# Altium footprint library Maze.PcbLib: 2 footprints
Each footprint in its own frame and in the unit in brackets; x right, y up, seen from the top. Pads: shape width x height; smd on the part's side, far side on the other; paste and mask are expansions set on the pad; w line width, h text height; cw(c..) or ccw(c..) is an arc to the next point about the centre after c.
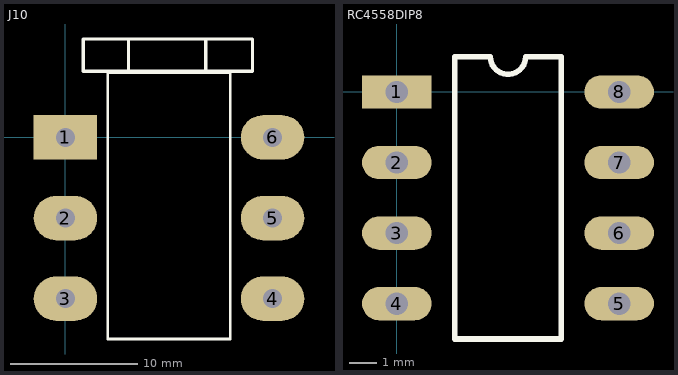
[diagram p0: the footprints below, top view; thin cyan lines are the x and y axes]

## J10 [mm]
pads (6):
  rect 5x3.5 hole 1.5: 1(0,0)
  oval 5x3.5 hole 1.5: 2(0,-6.35) 3(0,-12.7) 4(16.3,-12.7) 5(16.3,-6.35) 6(16.3,0)
Top Overlay:
  lines w0.2: 3.335,5.08 4.657,5.08 ; 3.335,5.207 3.335,-15.875 12.965,-15.875 12.965,5.08 3.429,5.08
  lines w0.254: 3.335,5.207 1.397,5.207 ; 4.953,7.747 4.953,5.207 11.049,5.207 11.049,7.747 ; 1.397,5.207 1.397,7.747 14.732,7.747 14.732,5.207 1.397,5.207

## RC4558DIP8 [mm]
pads (8):
  rect 2.5x1.2 hole 0.8: 1(0,0)
  oval 2.5x1.2 hole 0.8: 2(0,-2.54) 3(0,-5.08) 4(0,-7.62) 5(8,-7.62) 6(8,-5.08) 7(8,-2.54) 8(8,0)
Top Overlay:
  lines w0.2: 2.085,-8.89 5.915,-8.89 5.915,1.27 4.635,1.27 cw(c4,1.27) 3.365,1.27 2.085,1.27 2.085,-8.89